# Altium schematic symbol library CDRH127_LDNP-470MC.SchLib: 1 symbol
Pins are listed as number, name and electrical type; pins without a type are passive.

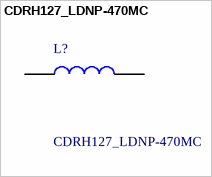
[diagram p0: symbol CDRH127_LDNP-470MC]

## CDRH127_LDNP-470MC
designator L?
Fixed Inductors 47uH 3.25A; Manufacturer_Name: Sumida; Manufacturer_Part_Number: CDRH127/LDNP-470MC; Geometry.Height: 8mm; Mouser Part Number: 851-CDRH127LDNP470MC; Mouser Price/Stock: https://www.mouser.co.uk/ProductDetail/Sumida/CDRH127-LDNP-470MC?qs=DrDMc5cg91OBCptfPhw%252Bdw%3D%3D; Arrow Part Number: CDRH127/LDNP-470MC; Arrow Price/Stock: https://www.arrow.com/en/products/cdrh127ldnp-470mc/sumida; Mouser Testing Part Number: *; Mouser Testing Price/Stock: *; Datasheet Link: https://products.sumida.com/products/pdf/CDRH127LD.pdf
footprint INDPM120120X800N
pins: 1, 2